# Altium schematic symbol library Schlib3.SchLib: 1 symbol
Pins are listed as number, name and electrical type; pins without a type are passive.

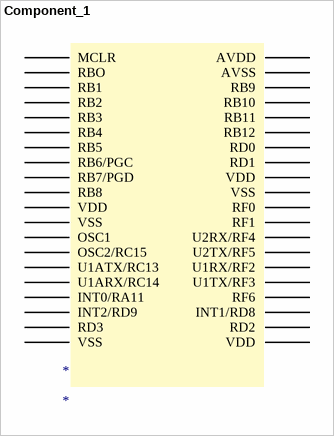
[diagram p0: symbol Component_1]

## Component_1
designator *
footprint PCBComponent_1
pins: 1 MCLR, 2 RBO, 3 RB1, 4 RB2, 5 RB3, 6 RB4, 7 RB5, 8 RB6/PGC, 9 RB7/PGD, 10 RB8, 11 VDD, 12 VSS, 13 OSC1, 14 OSC2/RC15, 15 U1ATX/RC13, 16 U1ARX/RC14, 17 INT0/RA11, 18 INT2/RD9, 19 RD3, 20 VSS, 21 VDD, 22 RD2, 23 INT1/RD8, 24 RF6, 25 U1TX/RF3, 26 U1RX/RF2, 27 U2TX/RF5, 28 U2RX/RF4, 29 RF1, 30 RF0, 31 VSS, 32 VDD, 33 RD1, 34 RD0, 35 RB12, 36 RB11, 37 RB10, 38 RB9, 39 AVSS, 40 AVDD